# EAGLE library part TLP621-2 (library ic)
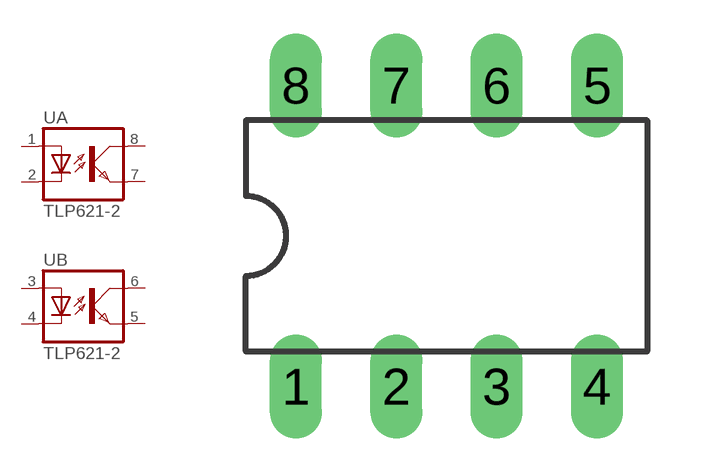
[diagram p9: symbol with the pads of 8PIN; footprint 8PIN]

Designator prefix -; gates A=TLP521 B=TLP521

## TLP621-2  [8PIN]
1  A:A  pas
2  A:C  pas
3  B:A  pas
4  B:C  pas
5  B:EMIT  pas
6  B:COL  pas
7  A:EMIT  pas
8  A:COL  pas

## Footprint 8PIN (pad centres in mm)
drill 0.813 long: 1 -3.81,-3.81; 2 -1.27,-3.81; 3 1.27,-3.81; 4 3.81,-3.81; 5 3.81,3.81; 6 1.27,3.81; 7 -1.27,3.81; 8 -3.81,3.81